# Altium footprint library Charger-Coil1.PcbLib: 1 footprints
Each footprint in its own frame and in the unit in brackets; x right, y up, seen from the top. Pads: shape width x height; smd on the part's side, far side on the other; paste and mask are expansions set on the pad; w line width, h text height; cw(c..) or ccw(c..) is an arc to the next point about the centre after c.
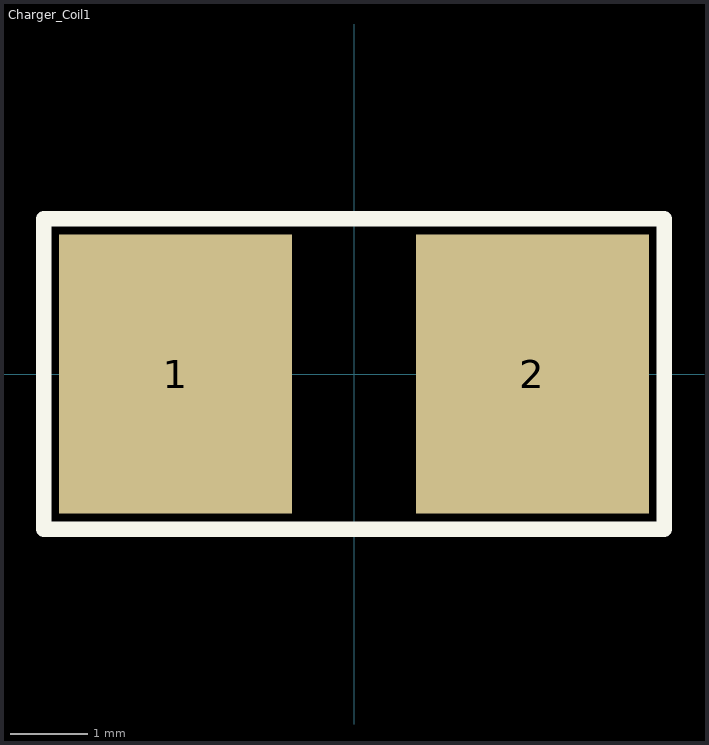
[diagram p0: the footprint, top view; thin cyan lines are the x and y axes]

## Charger_Coil1 [mm]
pads (2):
  rect 3x3.6 smd: 1(-2.3,0) 2(2.3,0)
Top Overlay:
  lines w0.2: -4,-2 -4,2 4,2 4,-2 0,-2 -4,-2